# Altium footprint library MICRO-USB-1_2021-12-16.PcbLib: 1 footprints
Each footprint in its own frame and in the unit in brackets; x right, y up, seen from the top. Pads: shape width x height; smd on the part's side, far side on the other; paste and mask are expansions set on the pad; w line width, h text height; cw(c..) or ccw(c..) is an arc to the next point about the centre after c.
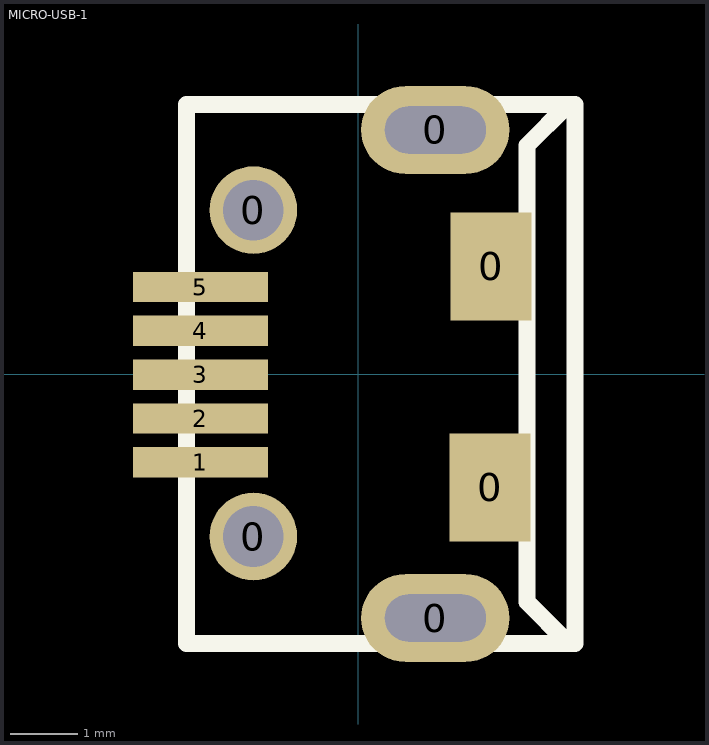
[diagram p0: the footprint, top view; thin cyan lines are the x and y axes]

## MICRO-USB-1 [mm]
pads (11):
  round 1.3 hole 0.9: 0(-1.556,-2.41) 0(-1.556,2.431)
  oval 2.2x1.3 hole 0.7 slot 1.5 at 0 deg: 0(1.144,-3.619) 0(1.144,3.619)
  rect 1.2x1.6 smd: 0(1.955,-1.683) 0(1.971,1.596)
  rect 2x0.45 smd: 1(-2.341,-1.31) 2(-2.341,-0.66) 3(-2.341,-0.01) 4(-2.341,0.64) 5(-2.341,1.29)
Top Overlay:
  lines w0.254: -2.546,4 -2.546,-4 3.194,-4 ; -2.536,4 3.204,4 ; 3.194,-3.97 3.094,-3.97 2.504,-3.38 2.504,3.39 3.094,3.98 3.214,3.98 ; 3.214,-4 3.214,4